# Altium schematic symbol library SLW-106-01-G-D.SchLib: 1 symbol
Pins are listed as number, name and electrical type; pins without a type are passive.

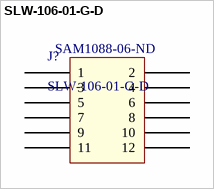
[diagram p0: symbol SLW-106-01-G-D]

## SLW-106-01-G-D
designator J?  Supplier Part Number 1: SAM1088-06-ND
CONN RCPT 12POS 0.1 GOLD PCB; Supplier 1: Digi-Key
footprint SLW-106-01-X-D
pins: 1, 2, 3, 4, 5, 6, 7, 8, 9, 10, 11, 12